# EAGLE library part MCP45HV51 (library ck)
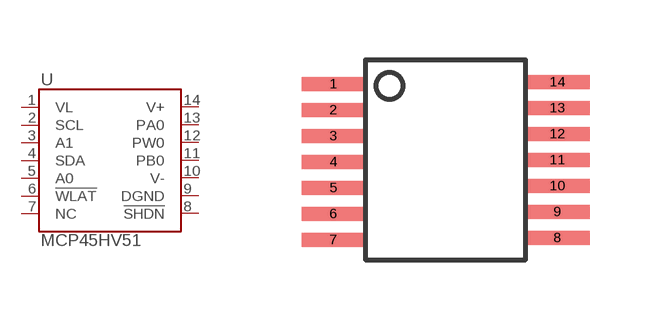
[diagram p5: symbol with the pads of TSSOP-14; footprint TSSOP-14]

Designator prefix U

## MCP45HV51  [TSSOP-14]
1  VL  pwr
2  SCL
3  A1
4  SDA
5  A0
6  !WLAT
7  NC
8  !SHDN
9  DGND  pwr
10  V-  pwr
11  PB0
12  PW0
13  PA0
14  V+  pwr

## Footprint TSSOP-14 (pad centres in mm)
smd 1.6 x 0.35: 1 -2.8,1.9; 2 -2.8,1.25; 3 -2.8,0.6; 4 -2.8,-0.05; 5 -2.8,-0.7; 6 -2.8,-1.35; 7 -2.8,-2; 8 2.8,-1.95; 9 2.8,-1.3; 10 2.8,-0.65; 11 2.8,0; 12 2.8,0.65; 13 2.8,1.3; 14 2.8,1.95